# Altium schematic symbol library soldering.SchLib: 1 symbol
Pins are listed as number, name and electrical type; pins without a type are passive.

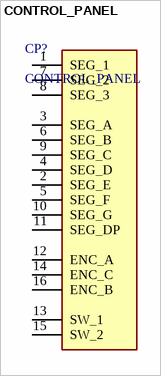
[diagram p0: symbol CONTROL_PANEL]

## CONTROL_PANEL
designator CP?
footprint CONTROL_PANEL
pins: 1 SEG_1, 2 SEG_E, 3 SEG_A, 4 SEG_D, 5 SEG_F, 6 SEG_B, 7 SEG_2, 8 SEG_3, 9 SEG_C, 10 SEG_G, 11 SEG_DP, 12 ENC_A, 13 SW_1, 14 ENC_C, 15 SW_2, 16 ENC_B